# EAGLE library part MCP4251 (library RoboRoach)
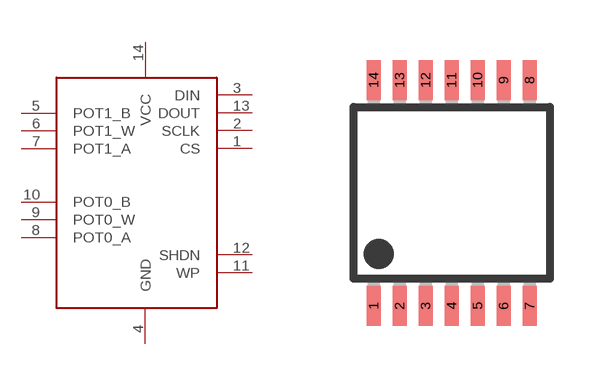
[diagram p0: symbol with the pads of TSSOP14; footprint TSSOP14]

Designator prefix -

## MCP4251  [TSSOP14]
1  CS  in
2  SCLK  in
3  DIN  in
4  GND  pwr
5  POT1_B
6  POT1_W
7  POT1_A
8  POT0_A
9  POT0_W
10  POT0_B
11  WP  in
12  SHDN  in
13  DOUT  out
14  VCC  pwr

## Footprint TSSOP14 (pad centres in mm)
14-Lead Plastic Thin Shrink Small Outline (ST) - 4.4 mm Body TSSOP Source: http://ww1.microchip.com/downloads/en/DeviceDoc/40039E.pdf
smd 0.35 x 1: 1 -1.95,-2.825; 2 -1.3,-2.825; 3 -0.65,-2.825; 4 0,-2.825; 5 0.65,-2.825; 6 1.3,-2.825; 7 1.95,-2.825; 8 1.95,2.825; 9 1.3,2.825; 10 0.65,2.825; 11 0,2.825; 12 -0.65,2.825; 13 -1.3,2.825; 14 -1.95,2.825